# Altium schematic symbol library IC_LT6656.SchLib: 1 symbol
Pins are listed as number, name and electrical type; pins without a type are passive.

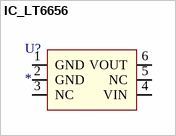
[diagram p0: symbol IC_LT6656]

## IC_LT6656
designator U?
pins: 1 GND, 2 GND, 3 NC, 4 VIN, 5 NC, 6 VOUT